# Altium footprint library 5142.48-А_LFCSP-32.PcbLib: 1 footprints
Each footprint in its own frame and in the unit in brackets; x right, y up, seen from the top. Pads: shape width x height; smd on the part's side, far side on the other; paste and mask are expansions set on the pad; w line width, h text height; cw(c..) or ccw(c..) is an arc to the next point about the centre after c.
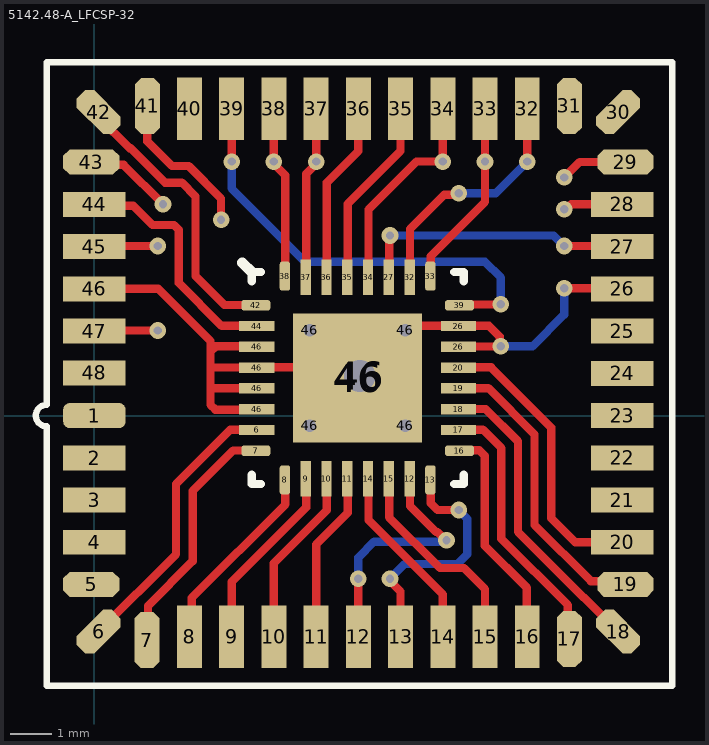
[diagram p0: the footprint, top view; thin cyan lines are the x and y axes]

## 5142.48-А_LFCSP-32 [mm]
pads (86):
  rrect50% 1.5x0.6 smd: 1(0,0)
  rect 1.5x0.6 smd: 2(0,-1.025) 3(0,-2.032) 4(0,-3.048) 20(12.7,-3.048) 21(12.7,-2.032) 22(12.7,-1.016) 23(12.7,0) 24(12.7,1.016) 25(12.7,2.032) 26(12.7,3.048) 27(12.7,4.064) 28(12.7,5.08) 44(0,5.08) 45(0,4.064) 46(0,3.048) 47(0,2.032) 48(0,1.025)
  oct 1.35x0.6 smd: 5(-0.075,-4.06) 19(12.775,-4.06) 29(12.775,6.1) 43(-0.075,6.1)
  oct 0.6x1.2 smd rot 135: 6(0.1,-5.2) 30(12.6,7.3)
  rect 0.85x0.25 smd mask+0.05: 6(3.908,-0.347) 17(8.758,-0.347) 18(8.758,0.153) 19(8.758,0.653) 20(8.758,1.153) 26(8.758,1.653) 26(8.758,2.153) 44(3.908,2.153) 46(3.908,0.153) 46(3.908,0.653) 46(3.908,1.153) 46(3.908,1.653)
  oct 0.6x1.35 smd: 7(1.265,-5.4) 17(11.425,-5.375) 31(11.425,7.45) 41(1.275,7.45)
  rrect50% 0.7x0.25 smd mask+0.05: 7(3.883,-0.847) 16(8.783,-0.847) 39(8.783,2.653) 42(3.883,2.653)
  rect 0.6x1.5 smd: 8(2.286,-5.32) 9(3.302,-5.32) 10(4.318,-5.32) 11(5.334,-5.32) 12(6.35,-5.32) 13(7.366,-5.32) 14(8.382,-5.32) 15(9.398,-5.32) 16(10.414,-5.32) 32(10.414,7.38) 33(9.398,7.38) 34(8.382,7.38) 35(7.366,7.38) 36(6.35,7.38) 37(5.334,7.38) 38(4.318,7.38) 39(3.302,7.38) 40(2.286,7.38)
  rrect50% 0.25x0.7 smd mask+0.05: 8(4.583,-1.547) 13(8.083,-1.547) 33(8.083,3.353) 38(4.583,3.353)
  rect 0.25x0.85 smd mask+0.05: 9(5.083,-1.522) 10(5.583,-1.522) 11(6.083,-1.522) 12(7.583,-1.522) 14(6.583,-1.522) 15(7.083,-1.522) 27(7.083,3.328) 32(7.583,3.328) 34(6.583,3.328) 35(6.083,3.328) 36(5.583,3.328) 37(5.083,3.328)
  oct 0.6x1.2 smd rot 45: 18(12.6,-5.2) 42(0.1,7.3)
  round 0.5 hole 0.3: 46(5.183,-0.247) 46(5.183,2.053) 46(7.483,-0.247) 46(7.483,2.053)
  rect 3.1x3.1 smd mask+0.05: 46(6.333,0.903)
  round 1.524 hole 0.762: 46(6.383,0.953)
via 9.779,2.681 diameter 0.4 hole 0.2
via 9.779,1.665 diameter 0.4 hole 0.2
via 6.35,-3.923 diameter 0.4 hole 0.2
via 7.112,-3.923 diameter 0.4 hole 0.2
via 8.471,-2.996 diameter 0.4 hole 0.2
via 1.524,2.046 diameter 0.4 hole 0.2
via 1.524,4.078 diameter 0.4 hole 0.2
via 1.651,5.086 diameter 0.4 hole 0.2
via 3.048,4.713 diameter 0.4 hole 0.2
via 3.302,6.11 diameter 0.4 hole 0.2
via 4.318,6.11 diameter 0.4 hole 0.2
via 5.334,6.11 diameter 0.4 hole 0.2
via 8.382,6.11 diameter 0.4 hole 0.2
via 9.398,6.11 diameter 0.4 hole 0.2
via 11.303,5.729 diameter 0.4 hole 0.2
via 11.303,4.078 diameter 0.4 hole 0.2
via 11.303,4.967 diameter 0.4 hole 0.2
via 11.303,3.062 diameter 0.4 hole 0.2
via 8.763,5.348 diameter 0.4 hole 0.2
via 10.414,6.11 diameter 0.4 hole 0.2
via 7.112,4.332 diameter 0.4 hole 0.2
via 8.763,-2.272 diameter 0.4 hole 0.2
Top Layer:
  lines w0.2: -0.046,6.099 0.022,6.031 0.706,6.031 1.651,5.086 ; 0,2.032 0.014,2.046 1.524,2.046 ; 0,3.048 1.538,3.048 2.794,1.792 2.794,1.538 ; 0,5.08 0.03,5.05 0.933,5.05 1.397,4.586 1.915,4.586 2.032,4.469 2.032,3.189 3.061,2.16 3.918,2.16 ; 0.014,4.078 1.524,4.078 ; 0.1,-5.2 1.963,-3.337 1.963,-1.648 3.271,-0.34 3.918,-0.34 ; 0.1,7.3 0.1,7.174 0.843,6.431 0.871,6.431 1.701,5.602 2.104,5.602 2.432,5.274 2.432,3.355 3.127,2.66 3.893,2.66 ; 1.265,-5.4 1.29,-5.375 1.29,-4.576 2.363,-3.503 2.363,-1.814 3.337,-0.84 3.893,-0.84 ; 1.275,7.45 1.275,6.593 1.866,6.002 2.27,6.002 3.048,5.224 3.048,4.713 ; 2.286,-5.32 2.34,-5.266 2.34,-4.387 4.593,-2.134 4.593,-1.54 ; 3.302,-5.32 3.302,-4.001 5.093,-2.21 5.093,-1.515 ; 3.302,6.11 3.302,7.38 ; 3.918,0.16 3.899,0.141 2.911,0.141 2.794,0.258 2.794,0.707 ; 3.918,0.66 2.842,0.66 2.794,0.707 ; 3.918,1.66 3.913,1.665 2.921,1.665 2.794,1.538 ; 4.318,-5.32 4.318,-3.551 5.593,-2.276 5.593,-1.515 ; 4.318,7.38 4.318,6.11 4.318,6.056 4.593,5.781 4.593,3.36 ; 5.093,3.335 5.093,5.815 5.334,6.056 5.334,6.11 5.334,7.38 ; 5.334,-5.32 5.334,-3.101 6.093,-2.342 6.093,-1.515 ; 5.593,3.335 5.593,5.607 6.35,6.364 6.35,7.38 ; 6.093,3.335 6.093,5.091 7.366,6.364 7.366,7.38 ; 6.343,0.91 6.093,1.16 3.918,1.16 3.915,1.157 2.794,1.157 ; 6.35,-5.32 6.35,-3.923 ; 6.593,-1.515 6.593,-2.515 8.382,-4.304 8.382,-5.32 ; 6.593,3.335 6.593,4.956 7.747,6.11 8.382,6.11 8.382,7.38 ; 7.093,-1.515 7.093,-2.449 8.313,-3.669 8.89,-3.669 9.398,-4.177 9.398,-5.32 ; 7.093,3.335 7.093,4.313 7.112,4.332 ; 7.112,-3.923 7.112,-3.977 7.366,-4.231 7.366,-5.32 ; 7.493,2.06 7.574,2.06 7.674,2.16 8.768,2.16 9.493,2.16 9.75,1.903 9.75,1.694 9.779,1.665 9.776,1.662 8.771,1.662 8.768,1.66 ; 7.593,-1.515 7.593,-2.176 8.216,-2.799 8.254,-2.799 8.45,-2.996 8.471,-2.996 ; 7.593,3.335 7.593,4.488 8.415,5.31 8.725,5.31 8.763,5.348 ; 8.093,-1.54 8.093,-2.11 8.255,-2.272 8.763,-2.272 ; 8.093,3.36 8.093,3.836 9.398,5.141 9.398,6.11 9.398,7.38 ; 8.768,-0.34 9.347,-0.34 9.79,-0.784 9.79,-2.964 11.388,-4.562 11.388,-5.338 11.425,-5.375 ; 8.768,0.16 9.412,0.16 10.19,-0.618 10.19,-2.798 11.777,-4.385 11.785,-4.385 12.6,-5.2 ; 8.768,0.66 9.478,0.66 10.59,-0.452 10.59,-2.633 11.943,-3.985 12.7,-3.985 12.775,-4.06 ; 8.768,1.16 9.544,1.16 10.99,-0.287 10.99,-2.467 11.571,-3.048 12.7,-3.048 ; 8.793,-0.84 8.797,-0.836 9.26,-0.836 9.39,-0.965 9.39,-3.13 10.403,-4.143 10.403,-5.309 10.414,-5.32 ; 8.793,2.66 8.803,2.67 9.768,2.67 9.779,2.681 ; 10.414,6.11 10.414,7.38 ; 11.303,3.062 12.686,3.062 12.7,3.048 ; 11.303,4.078 12.686,4.078 12.7,4.064 ; 11.303,4.967 11.357,4.967 11.47,5.08 12.7,5.08 ; 11.303,5.729 11.674,6.1 12.775,6.1 ; 2.794,0.707 2.794,1.157 ; 2.794,1.157 2.794,1.538
Bottom Layer:
  lines w0.2: 3.302,6.11 3.302,5.465 5.067,3.7 9.398,3.7 9.779,3.319 9.779,2.681 ; 6.35,-3.923 6.35,-3.415 6.731,-3.034 8.432,-3.034 8.471,-2.996 ; 7.112,-3.923 7.463,-3.572 8.733,-3.572 8.971,-3.334 8.971,-2.49 8.763,-2.282 ; 7.112,4.332 7.166,4.332 11.049,4.332 11.303,4.078 ; 8.763,5.348 9.652,5.348 10.414,6.11 ; 9.779,1.665 10.541,1.665 11.303,2.427 11.303,3.062
Top Overlay:
  lines w0.15: -1.15,-0.26 cw(c-1.15,0) -1.15,0.259
  lines w0.152: -1.15,-0.26 -1.15,-6.5 13.9,-6.5 13.9,8.5 -1.15,8.5 -1.15,0.259
  lines w0.2: 3.783,-1.422 3.783,-1.647 4.008,-1.647 ; 3.783,3.228 3.783,3.453 4.008,3.453 ; 8.658,-1.647 8.883,-1.647 8.883,-1.422 ; 8.658,3.453 8.883,3.453 8.883,3.228
  lines w0.254: 3.558,3.678 3.783,3.453
3D body "korpus_5142.48-a.stp": height 2.12, standoff 0, extent 0,-5.35 12.7,7.35